# Altium footprint library Fujikura.PcbLib: 4 footprints
Each footprint in its own frame and in the unit in brackets; x right, y up, seen from the top. Pads: shape width x height; smd on the part's side, far side on the other; paste and mask are expansions set on the pad; w line width, h text height; cw(c..) or ccw(c..) is an arc to the next point about the centre after c.
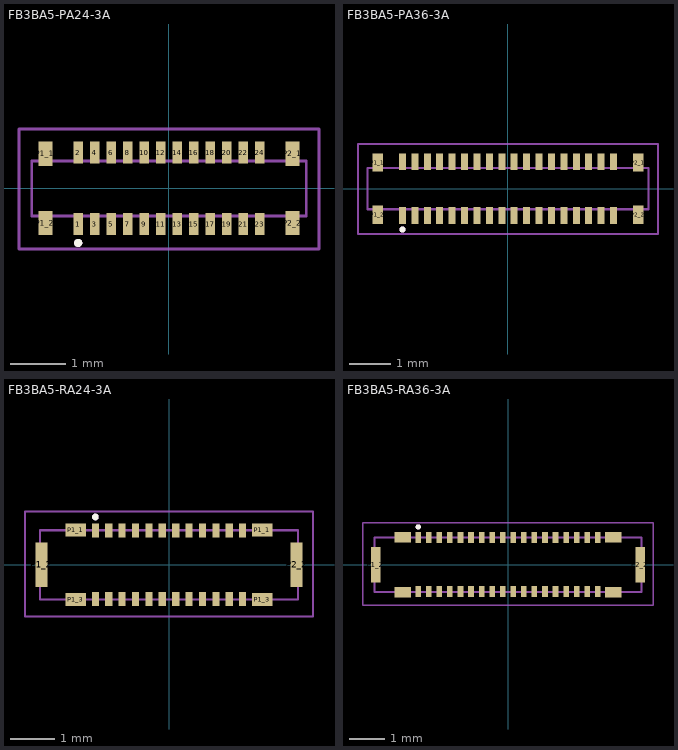
[diagram p0: the footprints below, top view; thin cyan lines are the x and y axes]

## FB3BA5-PA24-3A [mm] "Plug 24Pin, FB3BA5 is a 0.3mm pitch board to board(FPC) connector with a stacking height of 0.5mm and a depth of 1.55mm"
height 0.5
pads (28):
  rect 0.17x0.4 smd mask+0.03: 1(-1.65,-0.65) 2(-1.65,0.65) 3(-1.35,-0.65) 4(-1.35,0.65) 5(-1.05,-0.65) 6(-1.05,0.65) 7(-0.75,-0.65) 8(-0.75,0.65) 9(-0.45,-0.65) 10(-0.45,0.65) 11(-0.15,-0.65) 12(-0.15,0.65) 13(0.15,-0.65) 14(0.15,0.65) 15(0.45,-0.65) 16(0.45,0.65) 17(0.75,-0.65) 18(0.75,0.65) 19(1.05,-0.65) 20(1.05,0.65) 21(1.35,-0.65) 22(1.35,0.65) 23(1.65,-0.65) 24(1.65,0.65)
  rect 0.26x0.44 smd mask+0.05: P1_1(-2.245,0.63) P1_2(-2.245,-0.63) P2_1(2.245,0.63) P2_2(2.245,-0.63)
Top Overlay:
  circle w0.05: c-1.65,-0.99 r0.05
  region: -1.65,-0.94 -1.66,-0.94 -1.678,-0.948 -1.692,-0.962 -1.7,-0.98 -1.7,-0.99 -1.7,-1 -1.692,-1.018 -1.678,-1.032 -1.66,-1.04 -1.65,-1.04 -1.64,-1.04 -1.622,-1.032 -1.608,-1.018 -1.6,-1 -1.6,-0.99 -1.6,-0.98 -1.608,-0.962 -1.622,-0.948 -1.64,-0.94
Top Assembly:
  circle w0.05: c-1.65,-0.99 r0.05
  lines w0.05: -2.495,-0.5 -2.495,0.5 2.495,0.5 2.495,-0.5 -2.495,-0.5
Top Courtyard:
  lines w0.05: -2.725,-1.1 2.725,-1.1 2.725,1.079 -2.605,1.079 -2.725,1.079 -2.725,-1.1

## FB3BA5-PA36-3A [mm] "Plug 36Pin, FB3BA5 is a 0.3mm pitch board to board(FPC) connector with a stacking height of 0.5mm and a depth of 1.55mm"
pads (40):
  rect 0.17x0.4 smd mask+0.03: 1(-2.55,-0.65) 2(-2.55,0.65) 3(-2.25,-0.65) 4(-2.25,0.65) 5(-1.95,-0.65) 6(-1.95,0.65) 7(-1.65,-0.65) 8(-1.65,0.65) 9(-1.35,-0.65) 10(-1.35,0.65) 11(-1.05,-0.65) 12(-1.05,0.65) 13(-0.75,-0.65) 14(-0.75,0.65) 15(-0.45,-0.65) 16(-0.45,0.65) 17(-0.15,-0.65) 18(-0.15,0.65) 19(0.15,-0.65) 20(0.15,0.65) 21(0.45,-0.65) 22(0.45,0.65) 23(0.75,-0.65) 24(0.75,0.65) 25(1.05,-0.65) 26(1.05,0.65) 27(1.35,-0.65) 28(1.35,0.65) 29(1.65,-0.65) 30(1.65,0.65) 31(1.95,-0.65) 32(1.95,0.65) 33(2.25,-0.65) 34(2.25,0.65) 35(2.55,-0.65) 36(2.55,0.65)
  rect 0.26x0.44 smd mask+0.05: P1_1(-3.145,0.63) P1_2(-3.145,-0.63) P2_1(3.145,0.63) P2_2(3.145,-0.63)
Top Overlay:
  circle w0.05: c-2.55,-0.99 r0.05
  region: -2.55,-0.94 -2.56,-0.94 -2.578,-0.948 -2.592,-0.962 -2.6,-0.98 -2.6,-0.99 -2.6,-1 -2.592,-1.018 -2.578,-1.032 -2.56,-1.04 -2.55,-1.04 -2.54,-1.04 -2.522,-1.032 -2.508,-1.018 -2.5,-1 -2.5,-0.99 -2.5,-0.98 -2.508,-0.962 -2.522,-0.948 -2.54,-0.94
Top Assembly:
  circle w0.05: c-2.55,-0.99 r0.05
  region: -2.55,-1.04 -2.56,-1.04 -2.578,-1.032 -2.592,-1.018 -2.6,-1 -2.6,-0.99 -2.6,-0.98 -2.592,-0.962 -2.578,-0.948 -2.56,-0.94 -2.55,-0.94 -2.54,-0.94 -2.522,-0.948 -2.508,-0.962 -2.5,-0.98 -2.5,-0.99 -2.5,-1 -2.508,-1.018 -2.522,-1.032 -2.54,-1.04
  lines w0.05: -3.395,-0.5 -3.395,0.5 3.395,0.5 3.395,-0.5 -3.395,-0.5
Top Courtyard:
  lines w0.05: -3.625,-1.1 3.625,-1.1 3.625,1.079 -3.625,1.079 -3.625,-1.1

## FB3BA5-RA24-3A [mm] "Recaptacle 24Pin, FB3BA5 is a 0.3mm pitch board to board(FPC) connector with a stacking height of 0.5mm and a depth of 1.55mm"
pads (30):
  rect 0.16x0.315 smd mask+0.03: 1(-1.65,0.767) 2(-1.65,-0.767) 3(-1.35,0.767) 4(-1.35,-0.767) 5(-1.05,0.767) 6(-1.05,-0.767) 7(-0.75,0.767) 8(-0.75,-0.767) 9(-0.45,0.767) 10(-0.45,-0.767) 11(-0.15,0.767) 12(-0.15,-0.767) 13(0.15,0.767) 14(0.15,-0.767) 15(0.45,0.767) 16(0.45,-0.767) 17(0.75,0.767) 18(0.75,-0.767) 19(1.05,0.767) 20(1.05,-0.767) 21(1.35,0.767) 22(1.35,-0.767) 23(1.65,0.767) 24(1.65,-0.767)
  rect 0.46x0.29 smd mask+0.03: P1_1(-2.09,0.78) P1_1(2.09,0.78) P1_3(-2.09,-0.78) P1_3(2.09,-0.78)
  rect 0.27x1 smd mask+0.05: P1_2(-2.86,0) P2_2(2.86,0)
Top Overlay:
  circle w0.05: c-1.65,1.073 r0.05
  region: -1.65,1.023 -1.66,1.023 -1.678,1.031 -1.692,1.045 -1.7,1.063 -1.7,1.073 -1.7,1.083 -1.692,1.102 -1.678,1.116 -1.66,1.123 -1.65,1.123 -1.64,1.123 -1.622,1.116 -1.608,1.102 -1.6,1.083 -1.6,1.073 -1.6,1.063 -1.608,1.045 -1.622,1.031 -1.64,1.023
Top Assembly:
  circle w0.05: c-1.65,1.073 r0.05
  lines w0.05: -2.89,-0.775 -2.89,0.775 2.89,0.775 2.89,-0.775 -2.89,-0.775
Top Courtyard:
  lines w0.05: -3.225,-1.155 -3.225,1.194 3.225,1.194 3.225,-1.155 -3.225,-1.155

## FB3BA5-RA36-3A [mm] "Recaptacle 36Pin, FB3BA5 is a 0.3mm pitch board to board(FPC) connector with a stacking height of 0.5mm and a depth of 1.55mm"
pads (42):
  rect 0.16x0.315 smd mask+0.03: 1(-2.55,0.767) 2(-2.55,-0.767) 3(-2.25,0.767) 4(-2.25,-0.767) 5(-1.95,0.767) 6(-1.95,-0.767) 7(-1.65,0.767) 8(-1.65,-0.767) 9(-1.35,0.767) 10(-1.35,-0.767) 11(-1.05,0.767) 12(-1.05,-0.767) 13(-0.75,0.767) 14(-0.75,-0.767) 15(-0.45,0.767) 16(-0.45,-0.767) 17(-0.15,0.767) 18(-0.15,-0.767) 19(0.15,0.767) 20(0.15,-0.767) 21(0.45,0.767) 22(0.45,-0.767) 23(0.75,0.767) 24(0.75,-0.767) 25(1.05,0.767) 26(1.05,-0.767) 27(1.35,0.767) 28(1.35,-0.767) 29(1.65,0.767) 30(1.65,-0.767) 31(1.95,0.767) 32(1.95,-0.767) 33(2.25,0.767) 34(2.25,-0.767) 35(2.55,0.767) 36(2.55,-0.767)
  rect 0.46x0.29 smd mask+0.03: P1_1(-2.99,0.78) P1_1(2.99,0.78) P1_3(-2.99,-0.78) P1_3(2.99,-0.78)
  rect 0.27x1 smd mask+0.05: P1_2(-3.76,0) P2_2(3.76,0)
Top Overlay:
  circle w0.05: c-2.55,1.073 r0.05
  region: -2.55,1.023 -2.56,1.023 -2.578,1.031 -2.592,1.045 -2.6,1.063 -2.6,1.073 -2.6,1.083 -2.592,1.102 -2.578,1.116 -2.56,1.123 -2.55,1.123 -2.54,1.123 -2.522,1.116 -2.508,1.102 -2.5,1.083 -2.5,1.073 -2.5,1.063 -2.508,1.045 -2.522,1.031 -2.54,1.023
Top Assembly:
  circle w0.05: c-2.55,1.073 r0.05
  lines w0.05: -3.79,-0.775 -3.79,0.775 3.79,0.775 3.79,-0.775 -3.79,-0.775
Top Courtyard:
  lines w0.05: -4.125,-1.155 -4.125,1.194 4.125,1.194 4.125,-1.155 -4.125,-1.155